# Altium footprint library Usb.PcbLib: 12 footprints
Each footprint in its own frame and in the unit in brackets; x right, y up, seen from the top. Pads: shape width x height; smd on the part's side, far side on the other; paste and mask are expansions set on the pad; w line width, h text height; cw(c..) or ccw(c..) is an arc to the next point about the centre after c.
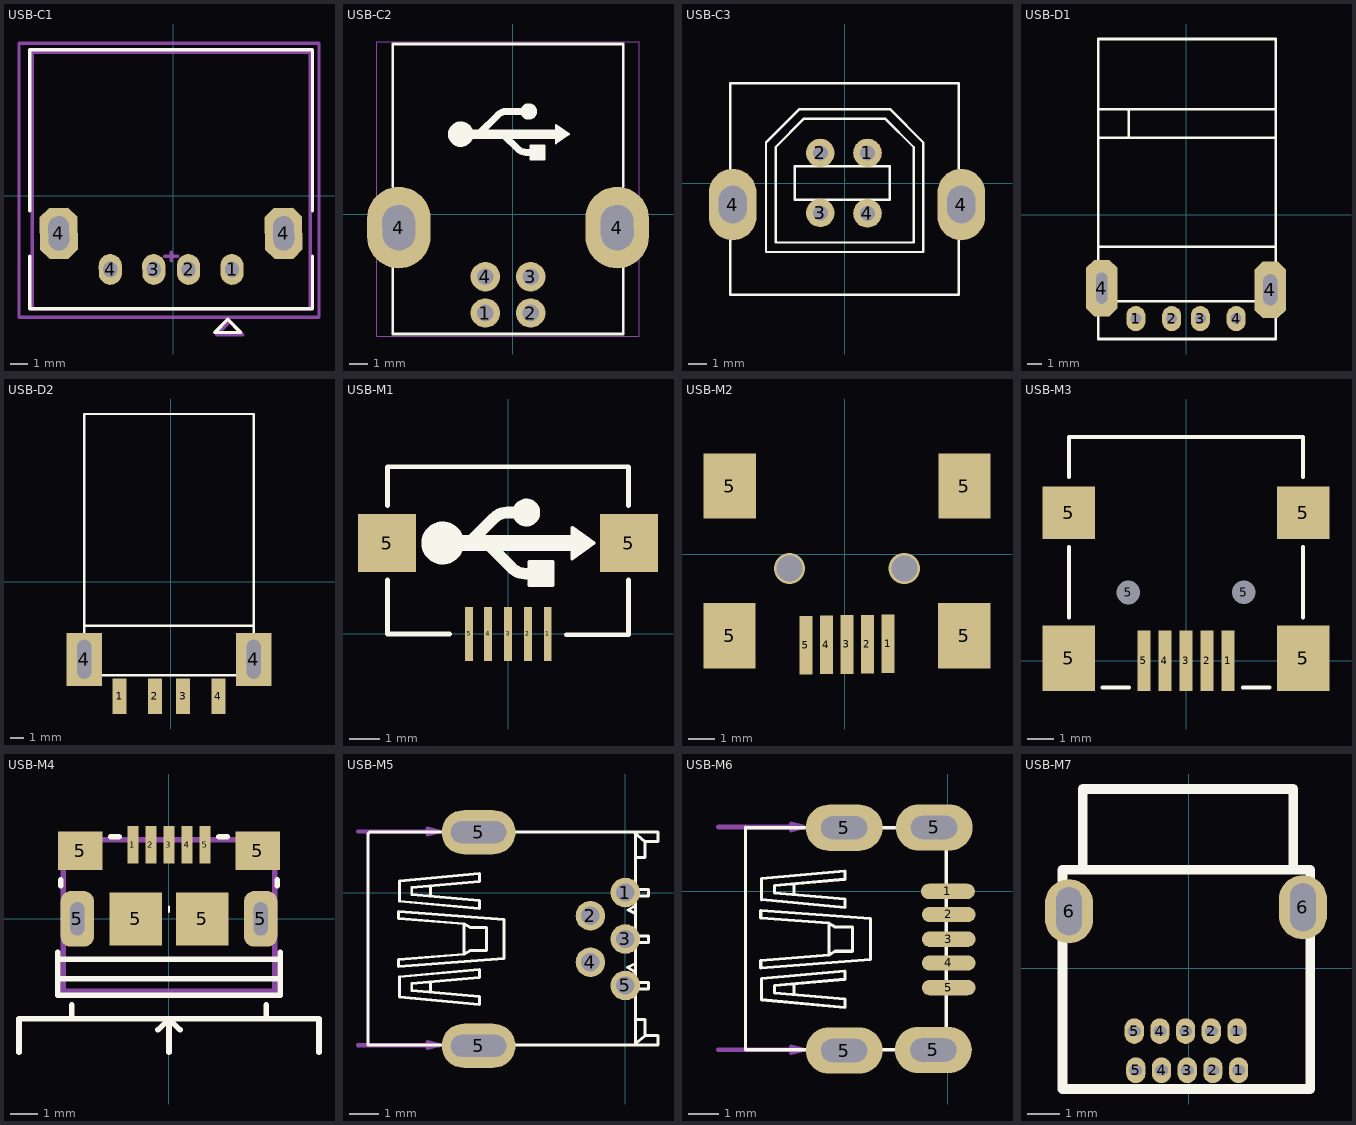
[diagram p0: the footprints below, top view; thin cyan lines are the x and y axes]

## USB-C1 [mm] "THT, USB 2.0 A Connector, 4Pin, Body 15.8 x14.5mm"
height 7.12
pads (6):
  oval 1.35x1.8 hole 0.8 slot 0.9 at 90.92 deg rot 0.92: 1(3.429,-4.318) 2(0.889,-4.318) 3(-1.143,-4.318) 4(-3.683,-4.318)
  oct 2.2x3 hole 1.2 slot 2 at 90.92 deg rot 0.92: 4(-6.697,-2.206) 4(6.443,-2.206)
Top Overlay:
  lines w0.2: -8.382,-3.556 -8.382,-6.604 8.128,-6.604 8.128,-3.556 ; -8.382,-0.889 -8.382,8.509 8.128,8.509 8.128,-0.889 ; 2.413,-8.001 3.937,-8.001 3.175,-7.239 2.413,-8.001
Mechanical 13:
  lines w0.2: -8.255,-6.604 -8.255,8.382 8.001,8.382 8.001,-6.604 -8.255,-6.604
Mechanical 15:
  lines w0.2: -0.508,-3.556 0.254,-3.556 ; -0.127,-3.81 -0.127,-3.302 ; -9.017,-7.112 -9.017,8.89 8.509,8.89 8.509,-7.112 -9.017,-7.112 ; 2.54,-8.128 4.064,-8.128 3.302,-7.366 2.54,-8.128
  text ".Designator" at -0.127,-3.556 h0.76
3D body "User Library-USB-A-01.step": height 6.97, standoff -4.18, extent -8.027,-5.461 7.773,8.239

## USB-C2 [mil]
pads (6):
  round 64 hole 36 mask+1: 1(-59.21,-214.16) 2(39.21,-214.16) 3(39.21,-135.42) 4(-59.21,-135.42)
  oval 137.8x177.17 hole 70.87 slot 98.43 at 91 deg mask+0: 4(-247.01,-28.72) 4(227.01,-28.72)
Top Overlay:
  circle w20: c35.06,223.21 r7.87
  circle w35: c-112.57,174 r10
  region: 68.53,119.87 39,119.87 39,149.39 68.53,149.39
  region: 121.68,174 94.12,154.31 94.12,193.69
  lines w5: 39,119.87 68.53,119.87 68.53,149.39 39,149.39 39,119.87 ; 94.12,154.31 94.12,193.69 121.68,174 94.12,154.31
  lines w6: -260,-116.14 -260,-260 240,-260 240,-116.14 ; -260,60 -260,370 240,370 240,60
  lines w15: -71.35,176.46 -31.98,215.83 cw(c-14.15,198) -14.15,223.21 35.06,223.21 ; -18.2,171.54 11.33,142.01 ccw(c29.16,159.84) 29.16,134.63 39,134.63
  lines w20: -92.89,174 94.12,174
Mechanical 15:
  lines w2: -295,-265 275,-265 275,375 -295,375 -295,-265
3D body "c-0292304-01-b-3d.stp": height 452.76, standoff -154.56, extent -293.24,-242.11 273.24,376

## USB-C3 [mil]
pads (6):
  round 60 hole 31.5 mask+2: 1(48,63.5) 2(-51,63.5) 3(-51,-62.5) 4(48,-63.5)
  oval 100x150 hole 59.06 slot 78.74 at 90 deg mask+2: 4(-235,-45) 4(245,-45)
Top Overlay:
  lines w5: -165,-234.5 125,-234.5 ; -240,-234.5 -240,-144.5 -240,185.5 -240,210 240,210 240,-234.5 -240,-234.5 ; -165,-144.5 -165,85.5 -95,155.5 65,155.5 95,155.5 165,85.5 165,-144.5 -165,-144.5 ; -145,-124.5 145,-124.5 145,75.5 85,135.5 -85,135.5 -145,75.5 -145,-124.5 ; -105,-34.5 -105,35.5 95,35.5 95,-34.5 -105,-34.5
3D body "usb_a-usb_b-top-c.stp": height 633.86, standoff -155.36, extent -290.12,-235.13 288.62,209.76

## USB-D1 [mil]
pads (6):
  oval 53.15x70 hole 31: 1(-140,-290) 2(-40,-290) 3(40,-290) 4(140,-290)
  oct 86.61x157.48 hole 31.5 slot 86.61 at 90 deg: 4(-235,-205)
  oct 86.61x157.48 hole 39.37 slot 86.61 at 90 deg: 4(235,-210)
Top Overlay:
  lines w7: -245,-347 250,-347 250,490 -245,490 ; -245,-242 250,-242 ; -245,-90 250,-90 ; -245,214 250,214 ; -245,294 250,294 ; -160,214 -160,294
  lines w7.87: -220,-347 -245,-347 -245,490 45,490
3D body "Samtec-USB-AM-S-F-W-TH.step": height 46.46, standoff -177.95, extent -246.06,-300 246.06,488.58

## USB-D2 [mil] "For USB SMD"
height 150
pads (6):
  rect 40x100 smd: 1(-145,-325) 2(-45,-325) 3(35,-325) 4(135,-325)
  rect 100x150 hole 40 slot 110 at 90 deg: 4(-245,-220) 4(235,-220)
Top Overlay:
  lines w7: -245,-125 235,-125 ; -245,-265 235,-265 235,475 -245,475 -245,-265
3D body "SW3dPS-USB Series A Plug.STEP": height 73.83, standoff -103.33, extent -238.44,-262.83 234,458.83

## USB-M1 [mil]
height 153.54
pads (7):
  rect 10x70 smd: 1(51.18,0) 2(25.59,0) 3(0,0) 4(-25.59,0) 5(-50,0)
  rect 74.8x74.8 smd: 5(-155.51,116.84) 5(155.51,116.84)
Top Overlay:
  circle w20: c23.56,156.21 r7.87
  circle w35: c-84.07,117 r10
  region: 57.03,62.87 27.5,62.87 27.5,92.39 57.03,92.39
  region: 110.18,117 82.62,97.31 82.62,136.69
  lines w5: 27.5,62.87 57.03,62.87 57.03,92.39 27.5,92.39 27.5,62.87 ; 82.62,97.31 82.62,136.69 110.18,117 82.62,97.31
  lines w6: -155,69.8 -155,0 -75,0 ; -155,164.84 -155,215 155,215 155,164.84 ; 75,-1 155,-1 155,69.8
  lines w15: -52.85,114.46 -18.48,148.83 cw(c-0.65,131) -0.65,156.21 22.5,156.21 ; -24.7,114.54 4.83,85.01 ccw(c22.66,102.84) 22.66,77.63 42.5,77.63
  lines w20: -82.5,117 92.5,117
3D body "Micro USB.STP": height 106.7, standoff -9.04, extent -156.58,4.51 157.59,218.29

## USB-M2 [mm]
pads (9):
  rect 0.5x2.25 smd: 1(1.651,-3.429) 2(0.864,-3.442) 3(0.076,-3.454) 4(-0.711,-3.467) 5(-1.499,-3.48)
  rect 2x2.5 smd: 5(-4.424,-3.124) 5(-4.42,2.616) 5(4.576,-3.124) 5(4.58,2.616)
via -2.124,-0.544 diameter 1.2 hole 1
via 2.276,-0.544 diameter 1.2 hole 1
3D body "User Library-USB_mini_B.step": height 3.95, standoff -1, extent -5.274,-3.797 5.426,5.403

## USB-M3 [mm]
height 3.9
pads (11):
  rect 0.5x2.3 smd mask+0.025: 1(1.6,0) 2(0.8,0) 3(0,0) 4(-0.8,0) 5(-1.6,0)
  rect 2x2.5 smd mask+0: 5(-4.45,0.1) 5(4.45,0.1)
  rect 2x2 smd mask+0: 5(-4.45,5.631) 5(4.45,5.631)
  round 0.6 hole 0.9 unplated: 5(-2.2,2.6) 5(2.2,2.6)
Top Overlay:
  lines w0.152: -4.445,1.651 -4.445,4.318 ; -4.445,6.985 -4.445,8.509 4.445,8.509 4.445,6.985 ; -3.175,-1.016 -2.159,-1.016 ; 2.159,-1.016 3.175,-1.016 ; 4.445,1.651 4.445,4.318
3D body "User Library-USB_mini_B.STEP": height 3.95, standoff -1, extent -5.35,-0.7 5.35,8.5

## USB-M4 [mm]
pads (11):
  rect 0.4x1.35 smd mask+0.05: 1(-1.3,2.675) 2(-0.65,2.675) 3(0,2.675) 4(0.65,2.675) 5(1.3,2.675)
  rrect60% 1.2x2 hole 0.5 slot 1.2 at 90 deg: 5(-3.3,0) 5(3.3,0)
  rect 1.6x1.4 smd: 5(-3.2,2.45) 5(3.2,2.45)
  rect 1.9x1.9 smd paste-10: 5(-1.2,0) 5(1.2,0)
Top Overlay:
  lines w0.08: 0,0.25 0,0.45
  lines w0.2: -5.4,-4.8 -5.4,-3.6 5.4,-3.6 5.4,-4.8 ; -4,-2.15 4,-2.15 ; -4,-1.45 4,-1.45 ; -4,-1.2 -4,-2.75 4,-2.75 4,-1.2 ; -3.9,1.2 -3.9,1.4 ; -3.5,-3.6 -3.5,-3.1 ; -2.1,2.95 -1.8,2.95 ; -0.4,-4 0,-3.6 ; 0,-4.8 0,-3.6 ; 0.4,-4 0,-3.6 ; 1.8,2.95 2.1,2.95 ; 3.5,-3.6 3.5,-3.1 ; 3.9,1.2 3.9,1.4
Mechanical 16:
  lines w0.2: -3.8,-2.6 3.8,-2.6 3.8,2.85 -3.8,2.85 -3.8,-2.6
Mechanical 29:
  text ".Designator" at 0.6,-1.2 h1.52
3D body "10118193.step": height 2.85, standoff -0.75, extent -3.929,-2.76 3.928,2.9

## USB-M5 [mil]
pads (7):
  round 40 hole 25: 1(0,0) 2(-47.24,-31.5) 3(0,-62.99) 4(-47.24,-94.49) 5(0,-125.98)
  oval 100x60 hole 30 slot 75 at 0 deg: 5(-198.82,-207.68) 5(-198.82,81.69)
Top Overlay:
  lines w4: -348.43,-206.69 44.29,-206.69 44.29,-193.9 26.57,-193.9 ; -348.43,79.72 -346.46,81.69 44.29,81.69 44.29,68.9 26.57,68.9 ; -348.43,-206.69 -348.43,79.72 ; -289.37,-124.02 -289.37,-132.87 -197.83,-140.75 -197.83,-151.57 -306.1,-141.73 -306.1,-114.17 -197.83,-104.33 -197.83,-115.16 -289.37,-123.03 ; -289.37,-2.95 -197.83,-10.83 -197.83,-21.65 -306.1,-11.81 -306.1,15.75 -197.83,25.59 -197.83,14.76 -289.37,6.89 -289.37,-1.97 ; -263.78,-133.86 -263.78,-123.03 ; -263.78,-2.95 -263.78,7.87 ; 11.81,-206.69 26.57,-193.9 ; 11.81,81.69 26.57,68.9 ; 13.78,-130.91 31.5,-130.91 31.5,-122.05 13.78,-122.05 ; 13.78,-108.27 2.95,-101.38 13.78,-96.46 ; 13.78,-67.91 31.5,-67.91 31.5,-59.05 13.78,-59.05 ; 13.78,-28.54 3.94,-23.62 13.78,-17.72 ; 13.78,-4.92 31.5,-4.92 31.5,3.94 13.78,3.94 ; -218.5,-83.66 -218.5,-62.99 -218.5,-42.32 ; -218.5,-83.66 -210.63,-78.74 -187.99,-78.74 -187.99,-62.99 -187.99,-47.24 -210.63,-47.24 -218.5,-42.32 ; -218.5,-83.66 -307.09,-90.55 -307.09,-100.39 -164.37,-89.57 -164.37,-62.99 -164.37,-36.42 -307.09,-25.59 -307.09,-35.43 -218.5,-42.32 ; 26.57,-193.9 26.57,-172.24 13.78,-172.24 13.78,-206.69 13.78,81.69 13.78,47.24 26.57,47.24 26.57,68.9
Mechanical 1:
  lines w6: -362.2,-206.69 -251.97,-206.69 ; -362.2,82.68 -251.97,82.68 ; -196.85,-194.88 -175.2,-194.88 cw(c-175.2,-208.66) -161.42,-208.66 cw(c-175.2,-208.66) -175.2,-222.44 -224.41,-222.44 cw(c-224.41,-210.63) -236.22,-210.63 -236.22,-206.69 cw(c-224.41,-206.69) -224.41,-194.88 -177.17,-194.88 ; -196.85,94.49 -175.2,94.49 cw(c-175.2,80.71) -161.42,80.71 cw(c-175.2,80.71) -175.2,66.93 -224.41,66.93 cw(c-224.41,78.74) -236.22,78.74 -236.22,82.68 cw(c-224.41,82.68) -224.41,94.49 -177.17,94.49 ; -251.97,-206.69 -267.72,-210.63 -267.72,-202.76 -251.97,-206.69 ; -251.97,82.68 -267.72,86.61 -267.72,78.74 -251.97,82.68
3D body "usb-mini-b-th.stp": height 161.77, standoff -64.61, extent -345.33,-214.07 9,89.07

## USB-M6 [mil] "MOLEX 51387-0571"
pads (9):
  oval 70x20 smd: 1(0,0) 2(1,-30) 3(1,-61.99) 4(1,-93) 5(1,-124.98)
  oval 100x60 hole 30 slot 60 at 0 deg: 5(-134.82,-206.68) 5(-134.82,82.69) 5(-19,-206) 5(-18,83)
Top Overlay:
  lines w4: -225.37,-123.02 -225.37,-131.87 -133.83,-139.75 -133.83,-150.57 -242.1,-140.73 -242.1,-113.17 -133.83,-103.33 -133.83,-114.16 -225.37,-122.03 ; -225.37,-1.95 -133.83,-9.83 -133.83,-20.65 -242.1,-10.81 -242.1,16.75 -133.83,26.59 -133.83,15.76 -225.37,7.89 -225.37,-0.97 ; -199.78,-132.86 -199.78,-122.03 ; -199.78,-1.95 -199.78,8.87 ; -154.5,-82.66 -154.5,-61.99 -154.5,-41.32 ; -154.5,-82.66 -146.63,-77.74 -123.99,-77.74 -123.99,-61.99 -123.99,-46.24 -146.63,-46.24 -154.5,-41.32 ; -154.5,-82.66 -243.09,-89.55 -243.09,-99.39 -100.37,-88.57 -100.37,-61.99 -100.37,-35.42 -243.09,-24.59 -243.09,-34.43 -154.5,-41.32 ; -263,-205.69 -263,83.68 -262.02,82.69 -2.22,82.69 -2.22,-205.69 -263,-205.69
Mechanical 1:
  lines w6: -298.2,-205.69 -187.97,-205.69 ; -298.2,83.68 -187.97,83.68 ; -132.85,-193.88 -111.2,-193.88 cw(c-111.2,-207.66) -97.42,-207.66 cw(c-111.2,-207.66) -111.2,-221.44 -160.41,-221.44 cw(c-160.41,-209.63) -172.22,-209.63 -172.22,-205.69 cw(c-160.41,-205.69) -160.41,-193.88 -113.17,-193.88 ; -132.85,95.49 -111.2,95.49 cw(c-111.2,81.71) -97.42,81.71 cw(c-111.2,81.71) -111.2,67.93 -160.41,67.93 cw(c-160.41,79.74) -172.22,79.74 -172.22,83.68 cw(c-160.41,83.68) -160.41,95.49 -113.17,95.49 ; -17.03,-193.2 4.62,-193.2 cw(c4.62,-206.98) 18.4,-206.98 cw(c4.62,-206.98) 4.62,-220.76 -44.59,-220.76 cw(c-44.59,-208.95) -56.4,-208.95 -56.4,-205.02 cw(c-44.59,-205.02) -44.59,-193.2 2.65,-193.2 ; -17.03,96.17 4.62,96.17 cw(c4.62,82.39) 18.4,82.39 cw(c4.62,82.39) 4.62,68.61 -44.59,68.61 cw(c-44.59,80.42) -56.4,80.42 -56.4,84.35 cw(c-44.59,84.35) -44.59,96.17 2.65,96.17 ; -187.97,-205.69 -203.72,-209.63 -203.72,-201.76 -187.97,-205.69 ; -187.97,83.68 -203.72,87.61 -203.72,79.74 -187.97,83.68
3D body "513870528.stp": height 165.71, standoff -64.61, extent -262.76,-213.57 1.01,89.58

## USB-M7 [mm]
pads (12):
  oval 0.6x0.8 hole 0.3 slot 0.4 at 0 deg: 1(1.498,-1.956) 1(1.549,-3.175) 2(0.698,-1.956) 2(0.749,-3.175) 3(-0.102,-1.956) 3(-0.051,-3.175) 4(-0.902,-1.956) 4(-0.851,-3.175) 5(-1.702,-1.956) 5(-1.651,-3.175)
  oval 1.5x2 hole 0.8 slot 1.5 at 90 deg: 6(-3.734,1.778) 6(3.556,1.905)
Top Overlay:
  lines w0.3: -3.302,3.124 -3.302,5.588 3.251,5.588 3.251,3.175 ; -3.937,-3.759 -3.937,3.073 3.785,3.073 3.785,-3.759 -3.937,-3.759
3D body "usb_b_mini_dip.stp": height 3.92, standoff -1.68, extent -3.917,-3.736 3.785,5.616